# Altium integrated library con-hirschmann.IntLib: 22 symbols
Pins are listed as number, name and electrical type; pins without a type are passive.

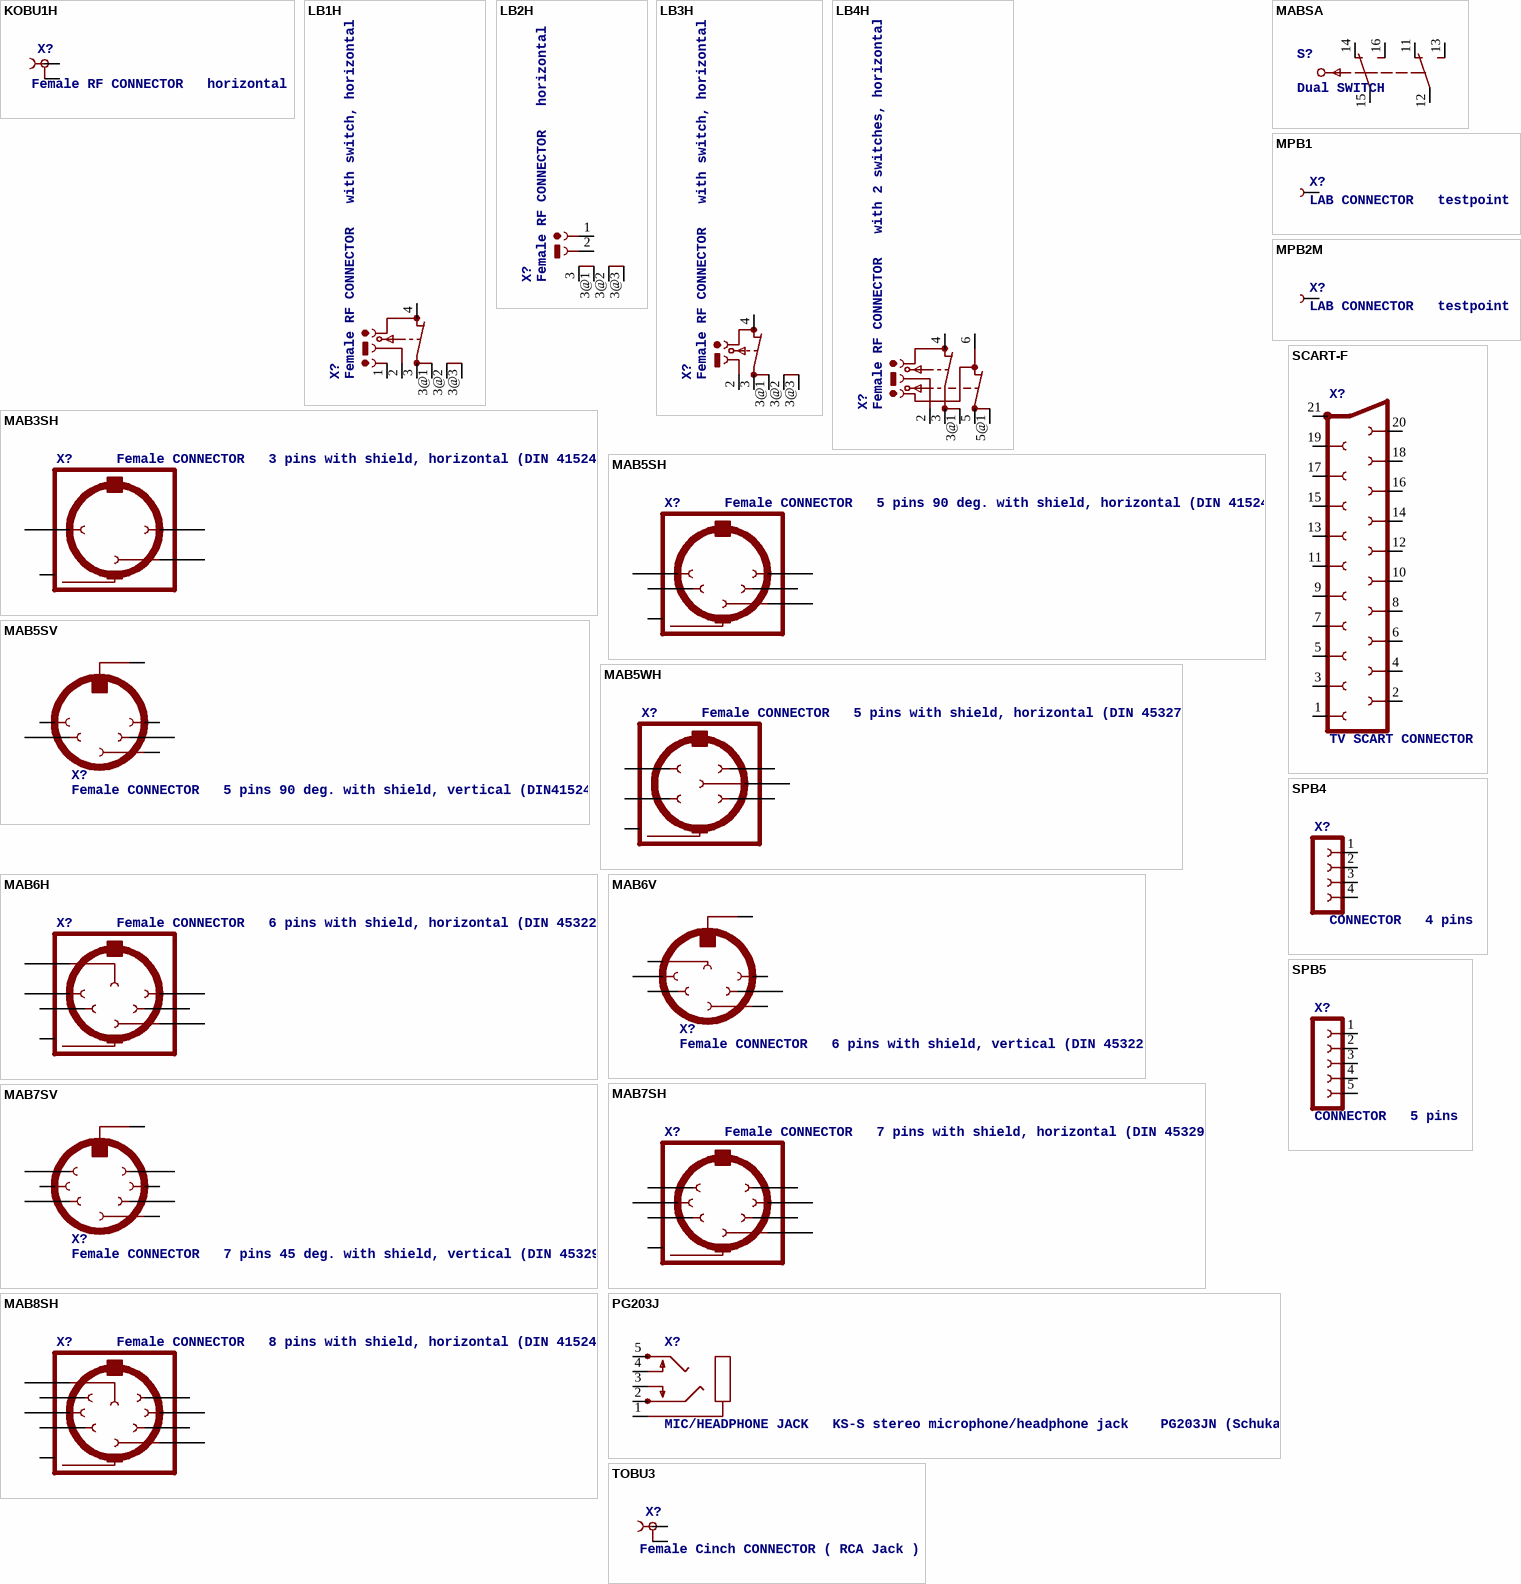
[diagram p0: symbols KOBU1H to TOBU3]

## KOBU1H
designator X?, comment Female RF CONNECTOR   horizontal
OC_FARNELL: unknown; OC_NEWARK: unknown
footprint KOBU1H
pins: 1, 2 2@1 2

## LB1H
designator X?, comment Female RF CONNECTOR   with switch, horizontal
OC_FARNELL: unknown; OC_NEWARK: unknown
footprint LB1H
pins: 1, 2, 3, 3@1 3A, 3@2 3B, 3@3 3C, 4

## LB2H
designator X?, comment Female RF CONNECTOR   horizontal
OC_FARNELL: unknown; OC_NEWARK: unknown
footprint LB2H
pins: 1, 2, 3, 3@1 4, 3@2 5, 3@3 6

## LB3H
designator X?, comment Female RF CONNECTOR   with switch, horizontal
OC_FARNELL: unknown; OC_NEWARK: unknown
footprint LB3H
pins: 2, 3, 3@1 3A, 3@2 3B, 3@3 3C, 4

## LB4H
designator X?, comment Female RF CONNECTOR   with 2 switches, horizontal
OC_FARNELL: unknown; OC_NEWARK: unknown
footprint LB4H
pins: 2, 3, 3@1 3A, 4, 5, 5@1 5A, 6

## MAB3SH
designator X?, comment Female CONNECTOR   3 pins with shield, horizontal (DIN 41524)
OC_FARNELL: 809871; OC_NEWARK: unknown
footprint MAB3SH
pins: 1, 2, 3, PE PE@ PE (power)

## MAB5SH
designator X?, comment Female CONNECTOR   5 pins 90 deg. with shield, horizontal (DIN 41524)
OC_FARNELL: 809883; OC_NEWARK: unknown
footprint MAB5SH
pins: 1, 2, 3, 4, 5, PE PE@ PE (power)

## MAB5SV
designator X?, comment Female CONNECTOR   5 pins 90 deg. with shield, vertical (DIN41524)
OC_FARNELL: unknown; OC_NEWARK: unknown
footprint MAB5SV
pins: 1, 2, 3, 4, 5, PE (power)

## MAB5WH
designator X?, comment Female CONNECTOR   5 pins with shield, horizontal (DIN 45327)
OC_FARNELL: unknown; OC_NEWARK: unknown
footprint MAB5WH
pins: 1, 2, 3, 4, 5, PE PE@ PE (power)

## MAB6H
designator X?, comment Female CONNECTOR   6 pins with shield, horizontal (DIN 45322)
MPN: MAB 6 H; MF: FARNELL; OC_FARNELL: 809901; OC_NEWARK: 67C7887
footprint MAB6H
pins: 1, 2, 3, 4, 5, 6, PE PE@ PE (power)

## MAB6V
designator X?, comment Female CONNECTOR   6 pins with shield, vertical (DIN 45322)
OC_FARNELL: unknown; OC_NEWARK: unknown
footprint MAB6V
pins: 1, 2, 3, 4, 5, 6, PE (power)

## MAB7SH
designator X?, comment Female CONNECTOR   7 pins with shield, horizontal (DIN 45329)
OC_FARNELL: unknown; OC_NEWARK: unknown
footprint MAB7SH
pins: 1, 2, 3, 4, 5, 6, 7, PE PE@ PE (power)

## MAB7SV
designator X?, comment Female CONNECTOR   7 pins 45 deg. with shield, vertical (DIN 45329)
OC_FARNELL: unknown; OC_NEWARK: unknown
footprint MAB7SV
pins: 1, 2, 3, 4, 5, 6, 7, PE (power)

## MAB8SH
designator X?, comment Female CONNECTOR   8 pins with shield, horizontal (DIN 41524)
MPN: MAB 8 SH; MF: FARNELL; OC_FARNELL: 809913; OC_NEWARK: 67C7888
footprint MAB8SH
pins: 1, 2, 3, 4, 5, 6, 7, 8, PE PE@ PE (power)

## MABSA
designator S?, comment Dual SWITCH
OC_FARNELL: unknown; OC_NEWARK: unknown
footprint MABSA
pins: 11, 12, 13, 14, 15, 16

## MPB1
designator X?, comment LAB CONNECTOR   testpoint
MPN: MPB1 BLACK; MF: FARNELL; OC_FARNELL: unknown; OC_NEWARK: 06WX5859
footprint MPB1
pins: 1 1@1 1

## MPB2M
designator X?, comment LAB CONNECTOR   testpoint
OC_FARNELL: unknown; OC_NEWARK: unknown
footprint MPB2M
pins: 1 1@1 1

## PG203J
designator X?, comment MIC/HEADPHONE JACK   KS-S stereo microphone/headphone jack    PG203JN (Schukat)
OC_FARNELL: unknown; OC_NEWARK: unknown
footprint PG203J
pins: 1, 2, 3, 4, 5

## SCART-F
designator X?, comment TV SCART CONNECTOR
OC_FARNELL: unknown; OC_NEWARK: unknown
footprint SCART-F
pins: 1, 2, 3, 4, 5, 6, 7, 8, 9, 10, 11, 12, 13, 14, 15, 16, 17, 18, 19, 20, 21

## SPB4
designator X?, comment CONNECTOR   4 pins
OC_FARNELL: unknown; OC_NEWARK: unknown
footprint SPB4
pins: 1, 2, 3, 4

## SPB5
designator X?, comment CONNECTOR   5 pins
OC_FARNELL: unknown; OC_NEWARK: unknown
footprint SPB5
pins: 1, 2, 3, 4, 5

## TOBU3
designator X?, comment Female Cinch CONNECTOR ( RCA Jack )
MPN: TOBU 3; MF: FARNELL; OC_FARNELL: 592791; OC_NEWARK: 06WX5914
footprint TOBU3
pins: 1, 2 2@1 2@2 2